# Altium schematic symbol library Power_pad.SchLib: 1 symbol
Pins are listed as number, name and electrical type; pins without a type are passive.

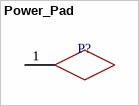
[diagram p0: symbol Power_Pad]

## Power_Pad
designator P?
=Description
pins: 1